# EAGLE library part EW12A03GLY (library EMERGING)
Emerging 12A03 122 x 32 Dots 5V 2,5mA
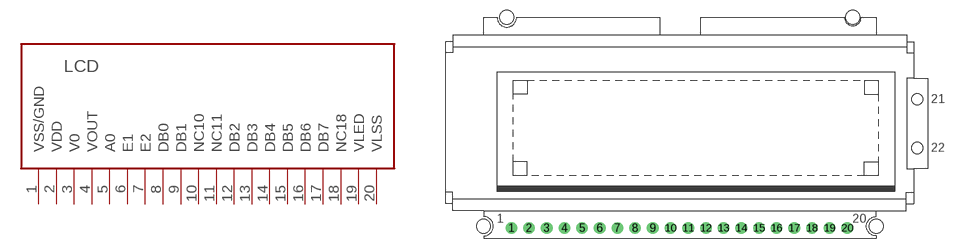
[diagram p0: symbol with the pads of 12A03; footprint 12A03]

Designator prefix LCD

## EW12A03GLY  [12A03]
1  VSS/GND  pwr
2  VDD  pwr
3  V0  in
4  VOUT  out
5  A0  in
6  E1  in
7  E2  in
8  DB0  in
9  DB1  in
10  NC10  nc
11  NC11  nc
12  DB2  in
13  DB3  in
14  DB4  in
15  DB5  in
16  DB6  in
17  DB7  in
18  NC18  nc
19  VLED  in
20  VLSS  in

## Footprint 12A03 (pad centres in mm)
drill 1 pad 1.676 round: 1 0,0; 2 2.54,0; 3 5.08,0; 4 7.62,0; 5 10.16,0; 6 12.7,0; 7 15.24,0; 8 17.78,0; 9 20.32,0; 10 22.86,0; 11 25.4,0; 12 27.94,0; 13 30.48,0; 14 33.02,0; 15 35.56,0; 16 38.1,0; 17 40.64,0; 18 43.18,0; 19 45.72,0; 20 48.26,0
hole 2 at -4,0.25
hole 2 at 52.4,0.25
hole 2 at -0.65,30.25
hole 2 at 49.05,30.25